# Altium schematic symbol library CSD25404Q3.SchLib: 1 symbol
Pins are listed as number, name and electrical type; pins without a type are passive.

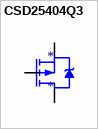
[diagram p0: symbol CSD25404Q3]

## CSD25404Q3
designator *
footprint *SON65P300X315X90-9N
footprint *SON65P300X315X90-9N
pins: 1 D, 2 D, 3 D, 4 G, 5-9 S, P$6 S, P$7 S, P$8 S, P$9 S, P$10 S, P$11 S, P$12 S